# EAGLE library part PCM1792A (library keves)
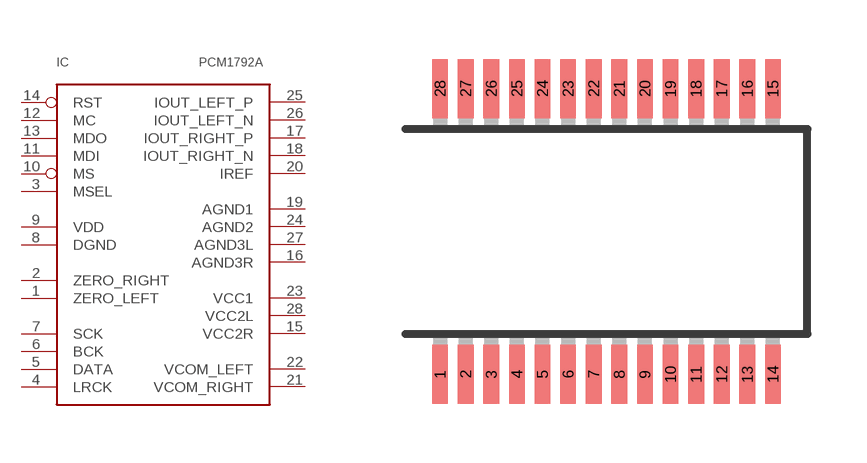
[diagram p28: symbol with the pads of SSOP28; footprint SSOP28]

Designator prefix IC

## PCM1792A  [SSOP28]
1  ZERO_LEFT
2  ZERO_RIGHT
3  MSEL
4  LRCK
5  DATA
6  BCK
7  SCK
8  DGND
9  VDD
10  MS
11  MDI
12  MC
13  MDO
14  RST
15  VCC2R
16  AGND3R
17  IOUT_RIGHT_P
18  IOUT_RIGHT_N
19  AGND1
20  IREF
21  VCOM_RIGHT
22  VCOM_LEFT
23  VCC1
24  AGND2
25  IOUT_LEFT_P
26  IOUT_LEFT_N
27  AGND3L
28  VCC2L

## Footprint SSOP28 (pad centres in mm)
Shrink Small Outline Package package type SS
smd 0.4 x 1.5: 1 -4.225,-3.625; 2 -3.575,-3.625; 3 -2.925,-3.625; 4 -2.275,-3.625; 5 -1.625,-3.625; 6 -0.975,-3.625; 7 -0.325,-3.625; 8 0.325,-3.625; 9 0.975,-3.625; 10 1.625,-3.625; 11 2.275,-3.625; 12 2.925,-3.625; 13 3.575,-3.625; 14 4.225,-3.625; 15 4.225,3.625; 16 3.575,3.625; 17 2.925,3.625; 18 2.275,3.625; 19 1.625,3.625; 20 0.975,3.625; 21 0.325,3.625; 22 -0.325,3.625; 23 -0.975,3.625; 24 -1.625,3.625; 25 -2.275,3.625; 26 -2.925,3.625; 27 -3.575,3.625; 28 -4.225,3.625